# Altium schematic symbol library switch_slide.SchLib: 5 symbols
Pins are listed as number, name and electrical type; pins without a type are passive.

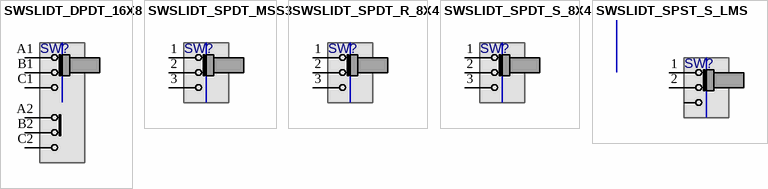
[diagram p0: symbols SWSLIDT_DPDT_16X8 to SWSLIDT_SPST_S_LMS]

## SWSLIDT_DPDT_16X8
designator SW?, comment SlideSwitch  (value not drawn)
SWITCH, SLIDE, DPDT, 15.5X7.4mm, THD; MANF_PART#: SS-22F25G5; MANF: China; DESC: DESCRIPTION; VALUE: SlideSwitch; ASSEMBLY: ASSEMBLY; PARAM: PARAM; PRICE: 1t@Javan
footprint SWSLIDT_DPDT_S_22F25G5 (SWITH DUAL POS, DUAL TERMINAL, STRAIGHT, SS-22F25G5)
pins: A1, A2, B1, B2, C1, C2

## SWSLIDT_SPDT_MSS3
designator SW?, comment SlideSwitch  (value not drawn)
SWITCH, SLIDE, SPDT, SMD; MANF_PART#: MSS3-V; MANF: Diptronics; PARAM: 24VDC/25mA, -20~+70oC; DESC: DESCRIPTION; VALUE: SlideSwitch; ASSEMBLY: ASSEMBLY; PRICE: 0.7$
footprint SWSLIDT_SPDT_MSS3 (Switch, Slide, SPDT,)
pins: 1 NC, 2 COM, 3 NO

## SWSLIDT_SPDT_R_8X4
designator SW?, comment SlideSwitch  (value not drawn)
SWITCH, SLIDE, SPDT, 8X4mm, THD; MANF_PART#: MHSS1105; MANF: Apem; DESC: DESCRIPTION; VALUE: SlideSwitch; ASSEMBLY: ASSEMBLY; PARAM: PARAM; PRICE: 0.5$
footprint SWSLIDT_SPDT_R_8X4 (SWSLIDT_SPDT_S_8X4, MHSS1105)
pins: 1 P1, 2 P3, 3 P4

## SWSLIDT_SPDT_S_8X4
designator SW?, comment SlideSwitch  (value not drawn)
SWITCH, SLIDE, SPDT, 8.6X4.3mm, THD; MANF_PART#: OS102011MS2QN1; MANF: C&K; DESC: DESCRIPTION; VALUE: SlideSwitch; ASSEMBLY: ASSEMBLY; PARAM: PARAM; PRICE: 0.4$
footprint SWSLIDT_SPDT_S_8X4 (Switch, Slide, SPDT, Straight, THD, 8.6X4.3mm)
pins: 1 P1, 2 P3, 3 P4

## SWSLIDT_SPST_S_LMS
designator SW?, comment SlideSwitch  (value not drawn)
SWITCH, SLIDE, SMD, SPST, THD; MANF_PART#: L101011MS02Q; MANF: C&K; DESC: DESCRIPTION; VALUE: SlideSwitch; ASSEMBLY: ASSEMBLY; PARAM: PARAM; PRICE: 1.75$
footprint SWSLIDT_SPST_S_10X4 (SW_SPST 10X4)
pins: 1 P1, 2 P3